# Altium footprint library DSUB09.PcbLib: 1 footprints
Each footprint in its own frame and in the unit in brackets; x right, y up, seen from the top. Pads: shape width x height; smd on the part's side, far side on the other; paste and mask are expansions set on the pad; w line width, h text height; cw(c..) or ccw(c..) is an arc to the next point about the centre after c.
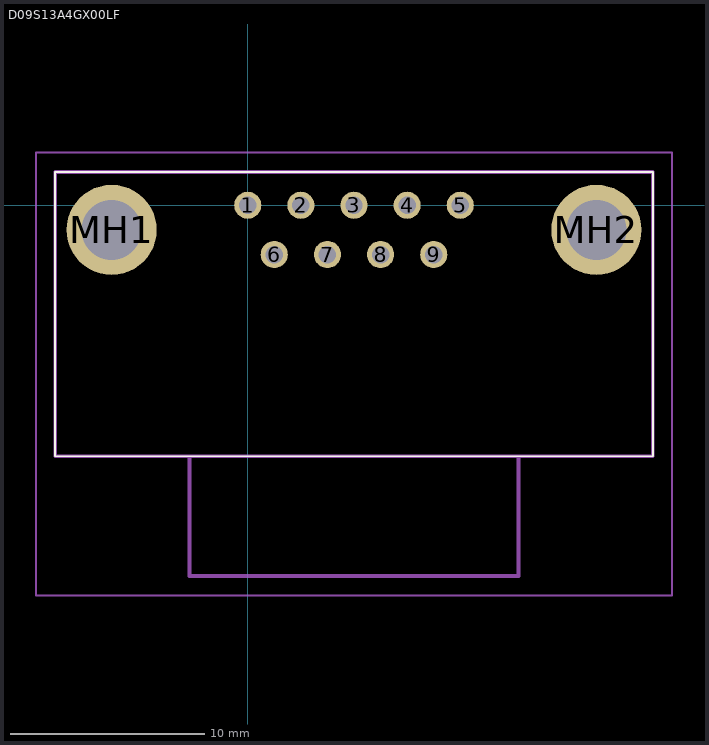
[diagram p0: the footprint, top view; thin cyan lines are the x and y axes]

## D09S13A4GX00LF [mm]
pads (11):
  round 1.4 hole 0.9: 1(0,0) 2(2.74,0) 3(5.48,0) 4(8.22,0) 5(10.96,0) 6(1.37,-2.54) 7(4.11,-2.54) 8(6.85,-2.54) 9(9.59,-2.54)
  round 4.65 hole 3.1: MH1(-7.015,-1.27) MH2(17.975,-1.27)
Top Overlay:
  lines w0.1: -9.925,-12.94 20.885,-12.94 20.885,1.71 -9.925,1.71 -9.925,-12.94
Mechanical 13:
  lines w0.2: -9.925,-12.94 20.885,-12.94 20.885,1.71 -9.925,1.71 -9.925,-12.94 ; -3,-19.11 13.96,-19.11 13.96,-12.94 -3,-12.94 -3,-19.11
Mechanical 15:
  lines w0.1: -10.925,-20.11 21.885,-20.11 21.885,2.71 -10.925,2.71 -10.925,-20.11
3D body "D09S13A4GX00LF.stp": height 13.96, standoff -5, extent -9.925,-19.11 20.885,1.71